# Altium footprint library display.PcbLib: 17 footprints (part 1 of 2)
Each footprint in its own frame and in the unit in brackets; x right, y up, seen from the top. Pads: shape width x height; smd on the part's side, far side on the other; paste and mask are expansions set on the pad; w line width, h text height; cw(c..) or ccw(c..) is an arc to the next point about the centre after c.
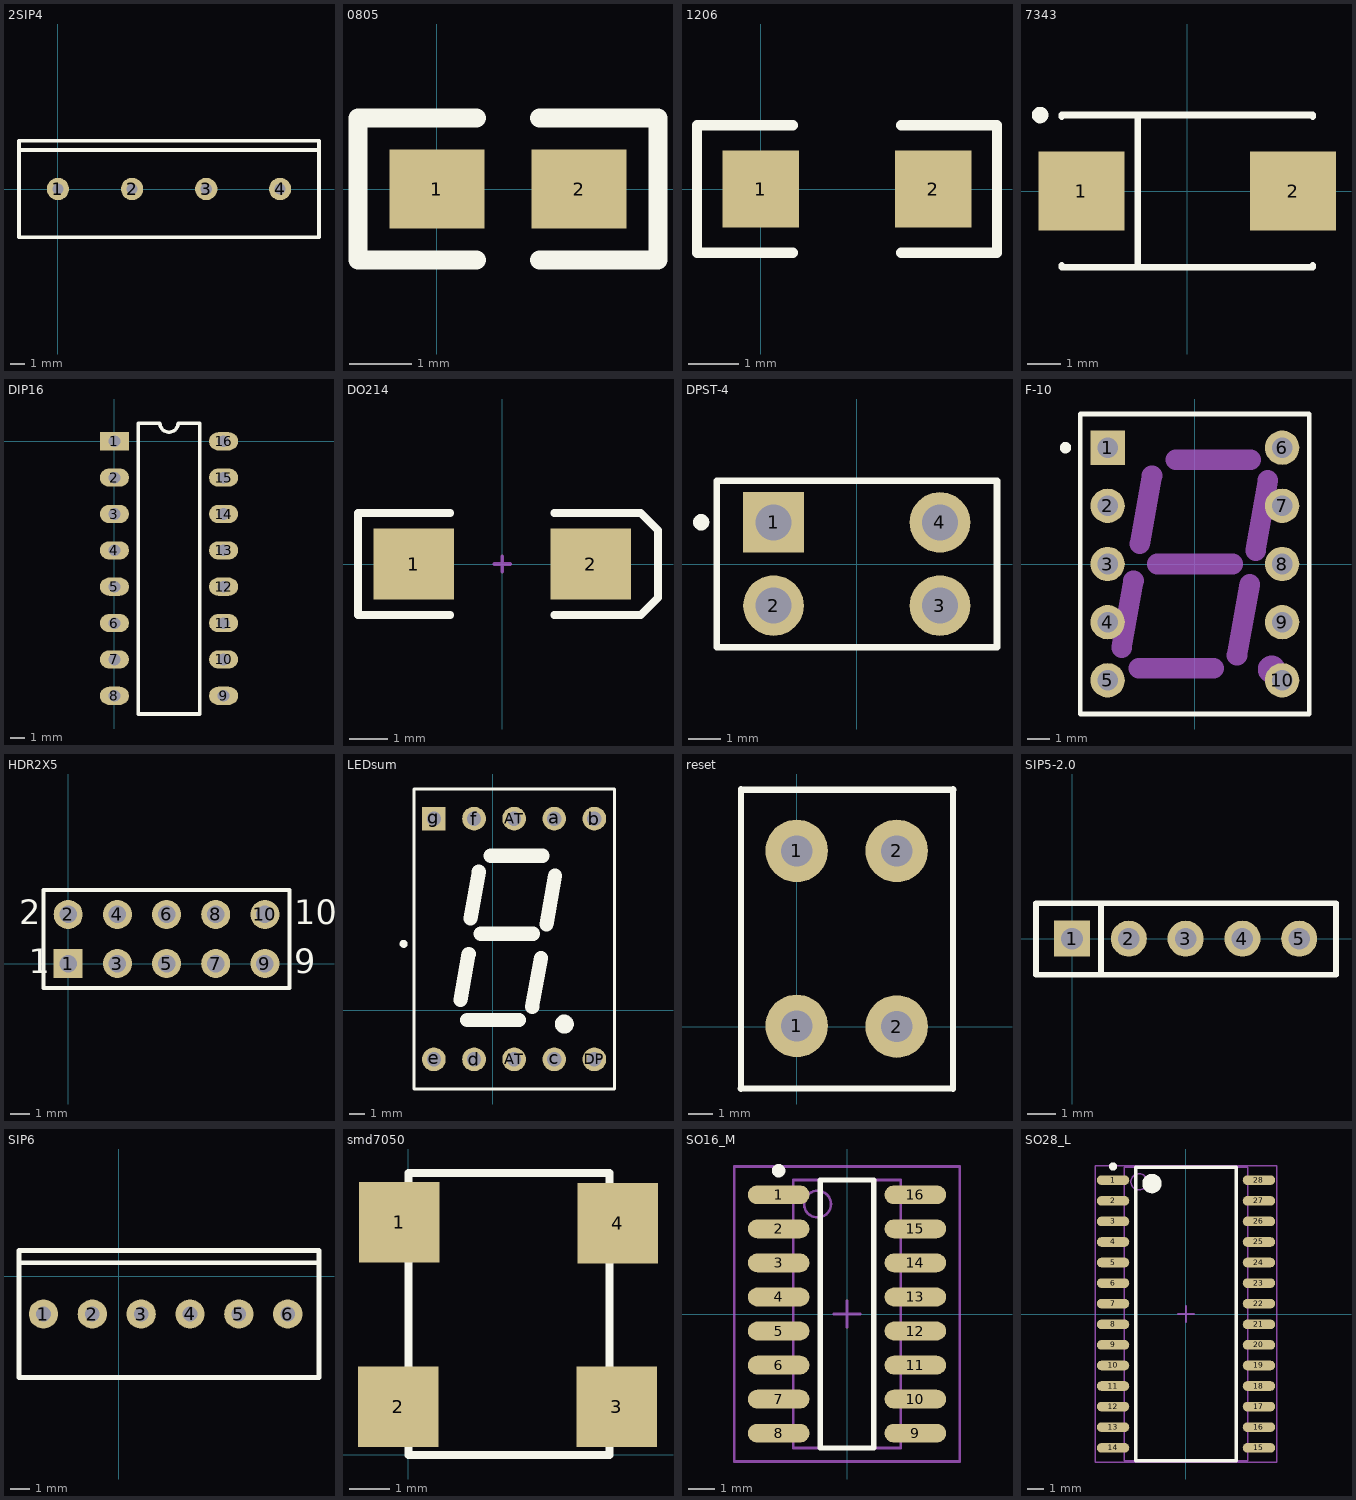
[diagram p0: the footprints below, top view; thin cyan lines are the x and y axes]

## 2SIP4 [mil]
pads (4):
  round 60 hole 30: 1(0,0) 2(200,0) 3(400,0) 4(599,0)
Top Overlay:
  lines w10: -105,105 704,105 ; -105,-130 704,-130 704,130 -105,130 -105,-130

## 0805 [mil]
pads (2):
  rect 60x50 smd: 1(0,0) 2(90,0)
Top Overlay:
  lines w12: 25,-45 -50,-45 -50,45 25,45 ; 65,-45 140,-45 140,45 65,45

## 1206 [mil]
pads (2):
  rect 60x60 smd: 1(0,0) 2(135,0)
Top Overlay:
  lines w8: 25,-50 -50,-50 -50,50 25,50 ; 110,-50 185,-50 185,50 110,50

## 7343 [mm] "Capacitor, SM Tantalum; Body 7.3 x 4.3 mm (LxW typ)"
height 3.1
pads (2):
  rect 2.6x2.4 smd: 1(-3.2,0) 2(3.2,0)
Top Overlay:
  circle w0.25: c-4.45,2.3 r0.125
  lines w0.2: -3.8,-2.25 -3.8,-2.3 3.8,-2.3 3.8,-2.25 ; -3.8,2.25 -3.8,2.3 3.8,2.3 3.8,2.25 ; -1.5,-2.3 -1.5,2.3

## DIP16 [mil]
pads (16):
  rect 80x50 hole 32: 1(0,0)
  oval 80x50 hole 32: 2(0,-100) 3(0,-200) 4(0,-300) 5(0,-400) 6(0,-500) 7(0,-600) 8(0,-700) 9(300,-700) 10(300,-600) 11(300,-500) 12(300,-400) 13(300,-300) 14(300,-200) 15(300,-100) 16(300,0)
Top Overlay:
  lines w10: 65,-750 65,50 125,50 ccw(c150,50) 175,50 235,50 235,-750 65,-750

## DO214 [mm] "DO-214-AC/SMA; 2 C-Bend Leads; Body 5.3 x 2.6 mm, inc. leads (LxW)"
height 2.3
pads (2):
  rect 2.1x1.85 smd: 1(-2.3,0) 2(2.3,0)
Top Overlay:
  lines w0.2: -1.35,-1.325 -3.75,-1.325 -3.75,1.325 -1.35,1.325 ; 1.35,-1.325 3.6,-1.325 4.05,-0.875 4.05,0.875 3.6,1.325 1.35,1.325
Mechanical 1:
  lines w0.1: -0.2,0 0.2,0 ; 0,-0.2 0,0.2

## DPST-4 [mm] "Double-Pole, Single-Throw Switch; 4 Leads"
pads (4):
  rect 1.85x1.85 hole 1.1: 1(-2.54,1.27)
  round 1.85 hole 1.1: 2(-2.54,-1.27) 3(2.54,-1.27) 4(2.54,1.27)
Top Overlay:
  circle w0.25: c-4.751,1.274 r0.125
  lines w0.2: -4.28,-2.54 4.28,-2.54 4.28,2.54 -4.28,2.54 -4.28,-2.54

## F-10 [mm] "LED, 7-Segment Display, 10 mm, RHD; 10 Leads; Row Space 7.62 mm; Pitch 2.54 mm"
height 7.25
pads (10):
  rect 1.5x1.5 hole 0.9: 1(-3.81,5.08)
  round 1.5 hole 0.9: 2(-3.81,2.54) 3(-3.81,0) 4(-3.81,-2.54) 5(-3.81,-5.08) 6(3.81,5.08) 7(3.81,2.54) 8(3.81,0) 9(3.81,-2.54) 10(3.81,-5.08)
Top Overlay:
  circle w0.25: c-5.65,5.08 r0.125
  lines w0.2: -5,-6.55 -5,6.55 5,6.55 5,-6.55 -5,-6.55
Mechanical 1:
  circle w0.86: c3.35,-4.6 r0.17
  lines w0.9: -3.2,-3.65 -2.68,-0.73 ; -2.44,-4.55 0.83,-4.55 ; -2.4,0.89 -1.87,3.86 ; -1.65,0 1.65,0 ; -0.83,4.55 2.44,4.55 ; 1.84,-3.98 2.39,-0.89 ; 2.65,0.58 3.19,3.66

## HDR2X5 [mm] "Connector; Header; 5x2 Position"
pads (10):
  rect 1.5x1.5 hole 0.9: 1(0,0)
  round 1.5 hole 0.9: 2(0,2.54) 3(2.54,0) 4(2.54,2.54) 5(5.08,0) 6(5.08,2.54) 7(7.62,0) 8(7.62,2.54) 9(10.16,0) 10(10.16,2.54)
Top Overlay:
  lines w0.2: -1.27,-1.27 11.43,-1.27 11.43,3.81 -1.27,3.81 -1.27,-1.27
  text "10" at 11.684,2.032 h1.27
  text "9" at 11.684,-0.508 h1.27
  text "1" at -2.032,-0.508 h1.27
  text "2" at -2.54,2.032 h1.27

## LEDsum [mm]
pads (10):
  round 1.5 hole 0.9: a(3.89,12.12) AT(1.35,-3.12) AT(1.35,12.12) b(6.43,12.12) c(3.89,-3.12) d(-1.19,-3.12) DP(6.43,-3.12) e(-3.73,-3.12) f(-1.19,12.12)
  rect 1.5x1.5 hole 0.9: g(-3.73,12.12)
Top Overlay:
  circle w0.86: c4.529,-0.889 r0.17
  circle w0.25: c-5.65,4.191 r0.125
  lines w0.2: -5,-5 -5,14 7.7,14 7.7,-5 -5,-5
  lines w0.9: -2.044,0.636 -1.524,3.556 ; -1.619,-0.635 1.651,-0.635 ; -1.419,5.793 -0.889,8.763 ; -0.762,4.826 2.538,4.826 ; -0.127,9.779 3.143,9.779 ; 2.498,0.212 3.048,3.302 ; 3.397,5.429 3.937,8.509

## reset [mil]
pads (4):
  round 100 hole 50: 1(0,1) 1(0,281) 2(160,0) 2(160,281)
Top Overlay:
  lines w10: -90,-99 250,-99 ; -89,-100 -89,380 ; -89,379 251,379 ; 250,-100 250,380

## SIP5-2.0 [mil]
pads (5):
  rect 50x50 hole 30: 1(0,0)
  round 50 hole 30: 2(78.74,0) 3(157.48,0) 4(236.22,0) 5(314.96,0)
Top Overlay:
  lines w8: 40,-50 40,47 ; -50,-50 366,-50 366,49 -50,49 -50,-50

## SIP6 [mil]
pads (6):
  round 60 hole 30: 1(-154,-77) 2(-54,-77) 3(46,-77) 4(146,-77) 5(246,-77) 6(346,-77)
Top Overlay:
  lines w10: -204,28 410,28 ; -204,-207 410,-207 410,53 -204,53 -204,-207

## smd7050 [mm]
pads (4):
  rect 2x2 smd: 1(-0.229,5.791) 2(-0.254,1.194) 3(5.182,1.194) 4(5.207,5.766)
Top Overlay:
  lines w0.2: 0,7 0,0 5,0 ; 0,7.01 5,7.01 ; 5.004,0 5.004,7

## SO16_M [mm] "SOIC, 16-Leads, Body 9.9x3.8mm, Pitch 1.27mm, IPC Low Density"
height 1.75
pads (16):
  oval 2.3x0.7 smd: 1(-2.55,4.445) 2(-2.55,3.175) 3(-2.55,1.905) 4(-2.55,0.635) 5(-2.55,-0.635) 6(-2.55,-1.905) 7(-2.55,-3.175) 8(-2.55,-4.445) 9(2.55,-4.445) 10(2.55,-3.175) 11(2.55,-1.905) 12(2.55,-0.635) 13(2.55,0.635) 14(2.55,1.905) 15(2.55,3.175) 16(2.55,4.445)
Top Overlay:
  circle w0.25: c-2.55,5.345 r0.125
  lines w0.2: -1,-5 1,-5 1,5 -1,5 -1,-5
Mechanical 13:
  circle w0.1: c-1.1,4.1 r0.5
  lines w0.1: -2,-5 2,-5 2,5 -2,5 -2,-5
Mechanical 15:
  lines w0.1: -0.5,0 0.5,0 ; 0,-0.5 0,0.5 ; -4.2,-5.5 4.2,-5.5 4.2,5.5 -4.2,5.5 -4.2,-5.5
3D body: height 1.75, standoff 0, extent -2,-5 2,5

## SO28_L [mm] "SOIC, 28-Leads, Body 17.9x7.5mm, Pitch 1.27mm, IPC High Density"
height 2.65
pads (28):
  oval 2x0.6 smd: 1(-4.5,8.255) 2(-4.5,6.985) 3(-4.5,5.715) 4(-4.5,4.445) 5(-4.5,3.175) 6(-4.5,1.905) 7(-4.5,0.635) 8(-4.5,-0.635) 9(-4.5,-1.905) 10(-4.5,-3.175) 11(-4.5,-4.445) 12(-4.5,-5.715) 13(-4.5,-6.985) 14(-4.5,-8.255) 15(4.5,-8.255) 16(4.5,-6.985) 17(4.5,-5.715) 18(4.5,-4.445) 19(4.5,-3.175) 20(4.5,-1.905) 21(4.5,-0.635) 22(4.5,0.635) 23(4.5,1.905) 24(4.5,3.175) 25(4.5,4.445) 26(4.5,5.715) 27(4.5,6.985) 28(4.5,8.255)
Top Overlay:
  circle w0.25: c-4.5,9.105 r0.125
  circle w0.6: c-2.1,8.05 r0.3
  lines w0.2: -3.1,-9.05 -3.1,9.05 3.1,9.05 3.1,-9.05 -3.1,-9.05
Mechanical 13:
  circle w0.1: c-2.9,8.155 r0.5
  lines w0.1: -3.8,-9.055 -3.8,9.055 3.8,9.055 3.8,-9.055 -3.8,-9.055
Mechanical 15:
  lines w0.1: -0.5,0 0.5,0 ; 0,-0.5 0,0.5 ; -5.6,-9.15 -5.6,9.15 5.6,9.15 5.6,-9.15 -5.6,-9.15
3D body: height 2.65, standoff 0, extent -3.8,-9.055 3.8,9.055